# Altium footprint library Connector.PcbLib: 88 footprints (part 3 of 6)
Each footprint in its own frame and in the unit in brackets; x right, y up, seen from the top. Pads: shape width x height; smd on the part's side, far side on the other; paste and mask are expansions set on the pad; w line width, h text height; cw(c..) or ccw(c..) is an arc to the next point about the centre after c.
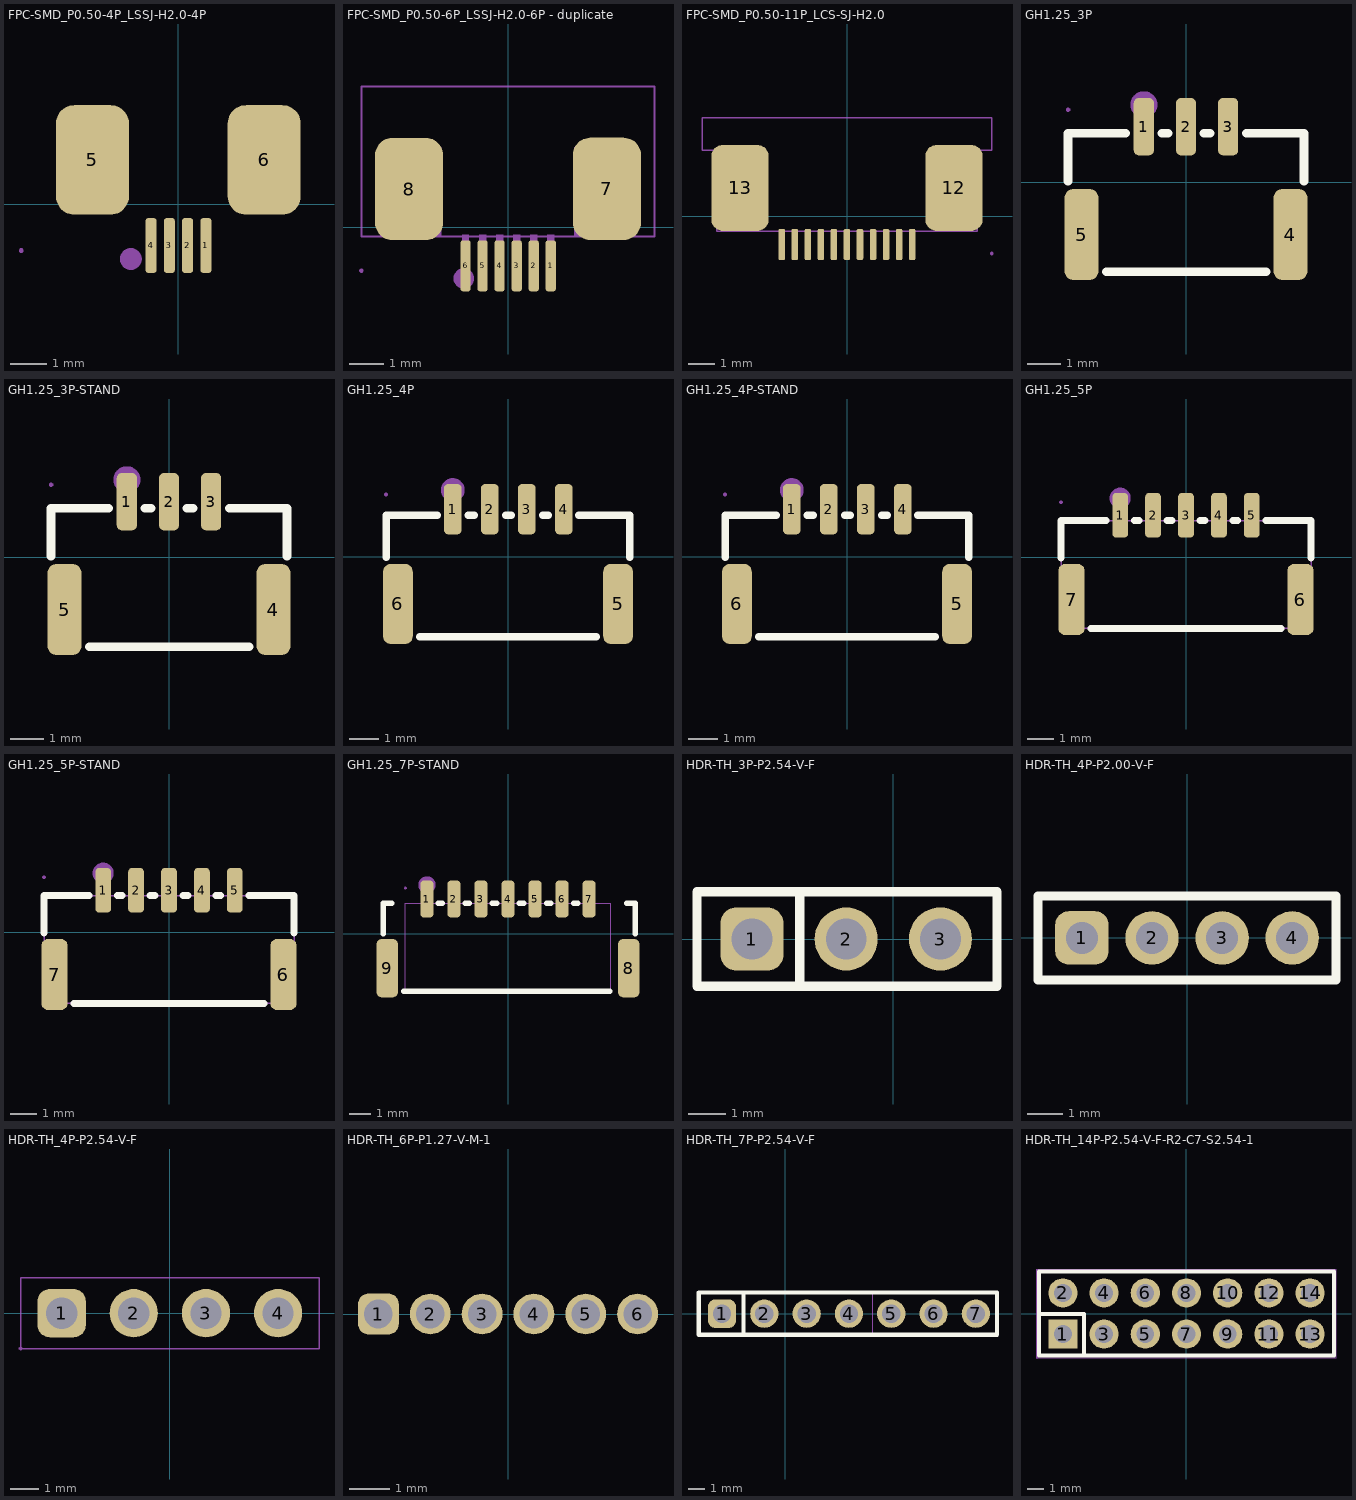
[diagram p2: the footprints below, top view; thin cyan lines are the x and y axes]

## FPC-SMD_P0.50-4P_LSSJ-H2.0-4P [mm]
pads (6):
  rrect50% 0.3x1.5 smd: 1(0.755,-1.13) 2(0.255,-1.13) 3(-0.245,-1.13) 4(-0.745,-1.13)
  rrect50% 2x3 smd: 5(-2.35,1.211) 6(2.35,1.211)
Mechanical 6:
  circle w0.3: c-1.3,-1.5 r0.15
Mechanical 15:
  region: -4.24,-1.271 -4.24,-1.246 -4.275,-1.211 -4.325,-1.211 -4.36,-1.246 -4.36,-1.271 -4.36,-1.296 -4.325,-1.331 -4.275,-1.331 -4.24,-1.296 -4.24,-1.271
  region: 0.848,-1.557 0.648,-1.557 0.648,-0.757 0.848,-0.757
  region: 0.348,-1.557 0.148,-1.557 0.148,-0.757 0.348,-0.757
  region: -0.152,-1.557 -0.352,-1.557 -0.352,-0.757 -0.152,-0.757
  region: -0.652,-1.557 -0.852,-1.557 -0.852,-0.757 -0.652,-0.757
3D body "fpc4real.step": height 2, standoff 0, extent -3.8,-1.39 3.8,3.81

## FPC-SMD_P0.50-6P_LSSJ-H2.0-6P - duplicate [mm]
pads (8):
  rrect50% 0.3x1.5 smd: 1(1.255,-1.13) 2(0.755,-1.13) 3(0.255,-1.13) 4(-0.245,-1.13) 5(-0.745,-1.13) 6(-1.245,-1.13)
  rrect50% 2x3 smd: 7(2.901,1.13) 8(-2.901,1.124)
Mechanical 6:
  circle w0.3: c-1.3,-1.5 r0.15
Mechanical 15:
  region: -4.24,-1.271 -4.24,-1.246 -4.275,-1.211 -4.325,-1.211 -4.36,-1.246 -4.36,-1.271 -4.36,-1.296 -4.325,-1.331 -4.275,-1.331 -4.24,-1.296 -4.24,-1.271
  region: 1.155,-0.221 1.355,-0.221 1.355,-1.271 1.155,-1.271
  region: 0.655,-0.221 0.855,-0.221 0.855,-1.271 0.655,-1.271
  region: 0.155,-0.221 0.355,-0.221 0.355,-1.271 0.155,-1.271
  region: -0.345,-0.221 -0.145,-0.221 -0.145,-1.271 -0.345,-1.271
  region: -0.845,-0.221 -0.645,-0.221 -0.645,-1.271 -0.845,-1.271
  region: -1.345,-0.221 -1.145,-0.221 -1.145,-1.271 -1.345,-1.271
  region: -3.751,2.35 -1.951,2.35 -1.951,-0.271 -3.751,-0.271
  region: 1.95,2.356 3.75,2.356 3.75,-0.265 1.95,-0.265
  lines w0.051: -4.3,-0.271 -4.3,4.129 4.3,4.129 4.3,-0.271 -4.3,-0.271
3D body "fpc v1.step": height 1.97, standoff -0.03, extent -4.3,-1.071 4.3,4.129

## FPC-SMD_P0.50-11P_LCS-SJ-H2.0 [mm]
pads (13):
  rrect50% 0.25x1.2 smd: 1(2.498,-1.084) 2(1.998,-1.084) 3(1.498,-1.084) 4(0.998,-1.084) 5(0.498,-1.084) 6(-0.002,-1.084) 7(-0.502,-1.084) 8(-1.002,-1.084) 9(-1.502,-1.084) 10(-2.002,-1.084) 11(-2.502,-1.084)
  rrect40% 2.2x3.3 smd: 12(4.1,1.084) 13(-4.1,1.084)
Mechanical 15:
  region: 2.598,-1.43 2.398,-1.43 2.398,-0.53 2.598,-0.53
  region: 2.098,-1.43 1.898,-1.43 1.898,-0.53 2.098,-0.53
  region: 1.598,-1.43 1.398,-1.43 1.398,-0.53 1.598,-0.53
  region: 1.098,-1.43 0.898,-1.43 0.898,-0.53 1.098,-0.53
  region: 0.598,-1.43 0.398,-1.43 0.398,-0.53 0.598,-0.53
  region: 0.098,-1.43 -0.102,-1.43 -0.102,-0.53 0.098,-0.53
  region: -0.402,-1.43 -0.602,-1.43 -0.602,-0.53 -0.402,-0.53
  region: -0.902,-1.43 -1.102,-1.43 -1.102,-0.53 -0.902,-0.53
  region: -1.402,-1.43 -1.602,-1.43 -1.602,-0.53 -1.402,-0.53
  region: -1.902,-1.43 -2.102,-1.43 -2.102,-0.53 -1.902,-0.53
  region: -2.402,-1.43 -2.602,-1.43 -2.602,-0.53 -2.402,-0.53
  region: 5,-0.366 3.2,-0.366 3.2,2.534 5,2.534
  region: -3.2,-0.366 -5,-0.366 -5,2.534 -3.2,2.534
  region: 5.61,-1.43 5.61,-1.405 5.575,-1.37 5.525,-1.37 5.49,-1.405 5.49,-1.43 5.49,-1.455 5.525,-1.49 5.575,-1.49 5.61,-1.455 5.61,-1.43
  lines w0.051: -5.55,2.52 -5.55,3.77 5.55,3.77 5.55,2.52 5,2.52 5,-0.58 -5,-0.58 -5,2.52 -5.55,2.52
3D body "realfpc.step": height 2, standoff 0, extent -5.55,-1.39 5.55,3.81

## GH1.25_3P [mm]
pads (5):
  rrect50% 0.6x1.7 smd mask+0.05: 1(-1.25,1.651) 2(0,1.651) 3(1.25,1.651)
  rrect50% 1x2.7 smd mask+0.05: 4(3.1,-1.549) 5(-3.1,-1.549)
Top Overlay:
  lines w0.254: -3.5,0.032 -3.5,1.451 -1.781,1.451 ; -2.369,-2.649 2.381,-2.649 ; -0.719,1.451 -0.531,1.451 ; 0.531,1.451 0.719,1.451 ; 1.969,1.451 1.781,1.451 3.5,1.451 3.5,0.032
Mechanical 6:
  circle w0.4: c-1.25,2.301 r0.2
Mechanical 15:
  region: -3.44,2.151 -3.44,2.176 -3.475,2.211 -3.525,2.211 -3.56,2.176 -3.56,2.151 -3.56,2.126 -3.525,2.091 -3.475,2.091 -3.44,2.126 -3.44,2.151
3D body "SM03B-GHS-TB.SLDPRT": height 4.25, standoff -0.05, extent -3.464,-2.882 3.536,1.968

## GH1.25_3P-STAND [mm]
pads (5):
  rrect50% 0.6x1.7 smd mask+0.05: 1(-1.25,1.651) 2(0,1.651) 3(1.25,1.651)
  rrect50% 1x2.7 smd mask+0.05: 4(3.1,-1.549) 5(-3.1,-1.549)
Top Overlay:
  lines w0.254: -3.5,0.032 -3.5,1.451 -1.781,1.451 ; -2.369,-2.649 2.381,-2.649 ; -0.719,1.451 -0.531,1.451 ; 0.531,1.451 0.719,1.451 ; 1.969,1.451 1.781,1.451 3.5,1.451 3.5,0.032
Mechanical 6:
  circle w0.4: c-1.25,2.301 r0.2
Mechanical 15:
  region: -3.44,2.151 -3.44,2.176 -3.475,2.211 -3.525,2.211 -3.56,2.176 -3.56,2.151 -3.56,2.126 -3.525,2.091 -3.475,2.091 -3.44,2.126 -3.44,2.151
3D body "B03MB-GHS-TBT.STEP": height 4.06, standoff -0.04, extent -3.49,-2.98 3.51,1.92

## GH1.25_4P [mm]
pads (6):
  rrect50% 0.6x1.7 smd mask+0.05: 1(-1.865,1.6) 2(-0.615,1.6) 3(0.635,1.6) 4(1.885,1.6)
  rrect50% 1x2.7 smd mask+0.05: 5(3.715,-1.6) 6(-3.715,-1.6)
Top Overlay:
  lines w0.254: -4.115,-0.019 -4.115,1.4 -2.396,1.4 ; -2.984,-2.7 2.985,-2.7 ; -1.334,1.4 -1.146,1.4 ; -0.084,1.4 0.104,1.4 ; 1.166,1.4 1.354,1.4 ; 2.396,1.4 4.115,1.4 4.115,-0.019
Mechanical 6:
  circle w0.4: c-1.865,2.25 r0.2
Mechanical 15:
  region: -4.055,2.1 -4.055,2.125 -4.09,2.16 -4.14,2.16 -4.175,2.125 -4.175,2.1 -4.175,2.075 -4.14,2.04 -4.09,2.04 -4.055,2.075 -4.055,2.1
3D body "SM04B-GHS-TB.STEP": height 4.25, standoff -0.05, extent -4.125,-2.921 4.125,1.929

## GH1.25_4P-STAND [mm]
pads (6):
  rrect50% 0.6x1.7 smd mask+0.05: 1(-1.865,1.6) 2(-0.615,1.6) 3(0.635,1.6) 4(1.885,1.6)
  rrect50% 1x2.7 smd mask+0.05: 5(3.715,-1.6) 6(-3.715,-1.6)
Top Overlay:
  lines w0.254: -4.115,-0.019 -4.115,1.4 -2.396,1.4 ; -2.984,-2.7 2.985,-2.7 ; -1.334,1.4 -1.146,1.4 ; -0.084,1.4 0.104,1.4 ; 1.166,1.4 1.354,1.4 ; 2.396,1.4 4.115,1.4 4.115,-0.019
Mechanical 6:
  circle w0.4: c-1.865,2.25 r0.2
Mechanical 15:
  region: -4.055,2.1 -4.055,2.125 -4.09,2.16 -4.14,2.16 -4.175,2.125 -4.175,2.1 -4.175,2.075 -4.14,2.04 -4.09,2.04 -4.055,2.075 -4.055,2.1
3D body "B04MB-GHS-TBT.STEP": height 4.06, standoff -0.04, extent -4.105,-2.853 4.145,2.047

## GH1.25_5P [mm]
pads (7):
  rrect50% 0.6x1.7 smd mask+0.05: 1(-2.5,1.6) 2(-1.25,1.6) 3(0,1.6) 4(1.25,1.6) 5(2.5,1.6)
  rrect50% 1x2.7 smd mask+0.05: 6(4.35,-1.6) 7(-4.35,-1.6)
Top Overlay:
  lines w0.254: -4.75,-0.019 -4.75,1.4 -3.031,1.4 ; -3.619,-2.7 3.619,-2.7 ; -1.969,1.4 -1.781,1.4 ; -0.719,1.4 -0.531,1.4 ; 0.531,1.4 0.719,1.4 ; 1.781,1.4 1.969,1.4 ; 3.031,1.4 4.75,1.4 4.75,-0.019
Mechanical 6:
  circle w0.4: c-2.5,2.25 r0.2
Mechanical 15:
  region: -4.45,-0.9 -4.25,-0.9 -4.25,-2.6 -4.45,-2.6
  region: 4.25,-0.9 4.45,-0.9 4.45,-2.6 4.25,-2.6
  region: 2.4,2.1 2.6,2.1 2.6,1.1 2.4,1.1
  region: 1.15,2.1 1.35,2.1 1.35,1.1 1.15,1.1
  region: -0.1,2.1 0.1,2.1 0.1,1.1 -0.1,1.1
  region: -1.35,2.1 -1.15,2.1 -1.15,1.1 -1.35,1.1
  region: -2.6,2.1 -2.4,2.1 -2.4,1.1 -2.6,1.1
  region: -4.69,2.1 -4.69,2.125 -4.725,2.16 -4.775,2.16 -4.81,2.125 -4.81,2.1 -4.81,2.075 -4.775,2.04 -4.725,2.04 -4.69,2.075 -4.69,2.1
  lines w0.051: -4.75,-2.7 -4.75,1.4 4.75,1.4 4.75,-2.7 -4.75,-2.7
3D body "GH1.25 5P v1.step": height 4.38, standoff 0.03, extent -4.75,-2.921 4.75,1.879

## GH1.25_5P-STAND [mm]
pads (7):
  rrect50% 0.6x1.7 smd mask+0.05: 1(-2.5,1.6) 2(-1.25,1.6) 3(0,1.6) 4(1.25,1.6) 5(2.5,1.6)
  rrect50% 1x2.7 smd mask+0.05: 6(4.35,-1.6) 7(-4.35,-1.6)
Top Overlay:
  lines w0.254: -4.75,-0.019 -4.75,1.4 -3.031,1.4 ; -3.619,-2.7 3.619,-2.7 ; -1.969,1.4 -1.781,1.4 ; -0.719,1.4 -0.531,1.4 ; 0.531,1.4 0.719,1.4 ; 1.781,1.4 1.969,1.4 ; 3.031,1.4 4.75,1.4 4.75,-0.019
Mechanical 6:
  circle w0.4: c-2.5,2.25 r0.2
Mechanical 15:
  region: -4.69,2.1 -4.69,2.125 -4.725,2.16 -4.775,2.16 -4.81,2.125 -4.81,2.1 -4.81,2.075 -4.775,2.04 -4.725,2.04 -4.69,2.075 -4.69,2.1
  region: -2.6,2.1 -2.4,2.1 -2.4,1.1 -2.6,1.1
  region: -1.35,2.1 -1.15,2.1 -1.15,1.1 -1.35,1.1
  region: -0.1,2.1 0.1,2.1 0.1,1.1 -0.1,1.1
  region: 1.15,2.1 1.35,2.1 1.35,1.1 1.15,1.1
  region: 2.4,2.1 2.6,2.1 2.6,1.1 2.4,1.1
  region: 4.25,-0.9 4.45,-0.9 4.45,-2.6 4.25,-2.6
  region: -4.45,-0.9 -4.25,-0.9 -4.25,-2.6 -4.45,-2.6
  lines w0.051: -4.75,-2.7 4.75,-2.7 4.75,1.4 -4.75,1.4 -4.75,-2.7
3D body "B05MB-GHS-TBT.STEP": height 4.06, standoff -0.04, extent -4.75,-2.8 4.75,2.1

## GH1.25_7P-STAND [mm]
pads (9):
  rrect50% 0.6x1.7 smd mask+0.05: 1(-3.75,1.6) 2(-2.5,1.6) 3(-1.25,1.6) 4(0,1.6) 5(1.25,1.6) 6(2.5,1.6) 7(3.75,1.6)
  rrect50% 1x2.7 smd mask+0.05: 8(5.588,-1.6) 9(-5.588,-1.6)
Top Overlay:
  lines w0.254: -5.766,-0.019 -5.766,1.4 -5.366,1.4 ; -4.826,-2.667 4.699,-2.667 ; -3.219,1.4 -3.031,1.4 ; -1.969,1.4 -1.781,1.4 ; -0.719,1.4 -0.531,1.4 ; 0.531,1.4 0.719,1.4 ; 1.781,1.4 1.969,1.4 ; 3.031,1.4 3.219,1.4 ; 5.493,1.4 5.893,1.4 5.893,-0.019
Mechanical 6:
  circle w0.4: c-3.75,2.25 r0.2
Mechanical 15:
  region: -5.661,-0.928 -5.461,-0.928 -5.461,-2.628 -5.661,-2.628
  region: 5.461,-0.928 5.661,-0.928 5.661,-2.628 5.461,-2.628
  region: 2.4,2.1 2.6,2.1 2.6,1.1 2.4,1.1
  region: 1.15,2.1 1.35,2.1 1.35,1.1 1.15,1.1
  region: -0.1,2.1 0.1,2.1 0.1,1.1 -0.1,1.1
  region: -1.35,2.1 -1.15,2.1 -1.15,1.1 -1.35,1.1
  region: -2.6,2.1 -2.4,2.1 -2.4,1.1 -2.6,1.1
  region: -4.69,2.1 -4.69,2.125 -4.725,2.16 -4.775,2.16 -4.81,2.125 -4.81,2.1 -4.81,2.075 -4.775,2.04 -4.725,2.04 -4.69,2.075 -4.69,2.1
  region: -3.85,2.1 -3.65,2.1 -3.65,1.1 -3.85,1.1
  region: 3.65,2.1 3.85,2.1 3.85,1.1 3.65,1.1
  lines w0.051: -4.75,-2.7 -4.75,1.4 4.75,1.4 4.75,-2.7 -4.75,-2.7
3D body "B07MB-GHS-TBT.STEP": height 4.13, standoff 0.03, extent -5.95,-2.98 6.05,1.92

## HDR-TH_3P-P2.54-V-F [mm] "间距2.54"
pads (3):
  rrect50% 1.699x1.699 hole 1.1 mask+0.051: 1(-3.81,0)
  round 1.699 hole 1.1 mask+0.051: 2(-1.27,0) 3(1.27,0)
Top Overlay:
  lines w0.254: -2.517,-1.27 -2.517,1.27 ; -5.291,-1.27 -5.291,1.27 2.794,1.27 2.794,-1.27 -5.291,-1.27
Mechanical 15:
  region: -4.13,0.15 -3.49,0.15 -3.49,-0.15 -4.13,-0.15
  region: -1.59,0.15 -0.95,0.15 -0.95,-0.15 -1.59,-0.15
  region: 0.95,0.15 1.59,0.15 1.59,-0.15 0.95,-0.15

## HDR-TH_4P-P2.00-V-F [mil] "间距2.0"
pads (4):
  rrect50% 60x60 hole 36 mask+2: 1(-118.11,0)
  round 60 hole 36 mask+2: 2(-39.37,0) 3(39.37,0) 4(118.11,0)
Top Overlay:
  lines w10: -167.32,-47.24 167.32,-47.24 167.32,47.24 -167.32,47.24 -167.32,-47.24
Mechanical 15:
  region: -164.96,-47.24 -164.96,-46.27 -166.34,-44.88 -168.3,-44.88 -169.69,-46.27 -169.69,-47.24 -169.69,-48.22 -168.3,-49.61 -166.34,-49.61 -164.96,-48.22 -164.96,-47.24
  region: 108.27,3.94 127.95,3.94 127.95,-3.94 108.27,-3.94
  region: 29.53,3.94 49.21,3.94 49.21,-3.94 29.53,-3.94
  region: -49.21,3.94 -29.53,3.94 -29.53,-3.94 -49.21,-3.94
  region: -127.95,3.94 -108.27,3.94 -108.27,-3.94 -127.95,-3.94
  lines w2: -167.32,-47.24 -167.32,47.24 167.32,47.24 167.32,-47.24 -167.32,-47.24

## HDR-TH_4P-P2.54-V-F [mm] "间距2.54"
pads (4):
  rrect50% 1.699x1.699 hole 1.1 mask+0.051: 1(-3.81,0)
  round 1.699 hole 1.1 mask+0.051: 2(-1.27,0) 3(1.27,0) 4(3.81,0)
Mechanical 15:
  region: -4.13,0.15 -3.49,0.15 -3.49,-0.15 -4.13,-0.15
  region: -1.59,0.15 -0.95,0.15 -0.95,-0.15 -1.59,-0.15
  region: 0.95,0.15 1.59,0.15 1.59,-0.15 0.95,-0.15
  region: 3.49,0.15 4.13,0.15 4.13,-0.15 3.49,-0.15
  region: -5.189,-1.25 -5.189,-1.224 -5.225,-1.189 -5.275,-1.189 -5.311,-1.224 -5.311,-1.25 -5.311,-1.275 -5.275,-1.311 -5.225,-1.311 -5.189,-1.275 -5.189,-1.25
  lines w0.051: -5.25,-1.25 -5.25,1.25 5.25,1.25 5.25,-1.25 -5.25,-1.25

## HDR-TH_6P-P1.27-V-M-1 [mm]
pads (6):
  rrect50% 1x1 hole 0.7: 1(-3.175,0)
  round 1 hole 0.7: 2(-1.905,0) 3(-0.635,0) 4(0.635,0) 5(1.905,0) 6(3.175,0)

## HDR-TH_7P-P2.54-V-F [mm] "间距2.54"
pads (7):
  rrect50% 1.699x1.699 hole 1.1 mask+0.051: 1(-3.81,0)
  round 1.699 hole 1.1 mask+0.051: 2(-1.27,0) 3(1.27,0) 4(3.81,0) 5(6.35,0) 6(8.89,0) 7(11.43,0)
Top Overlay:
  lines w0.254: -2.517,-1.27 -2.517,1.27 ; -5.207,-1.27 12.7,-1.27 12.7,1.27 -5.207,1.27 -5.207,-1.27
Mechanical 15:
  region: -4.13,0.15 -3.49,0.15 -3.49,-0.15 -4.13,-0.15
  region: -1.59,0.15 -0.95,0.15 -0.95,-0.15 -1.59,-0.15
  region: 0.95,0.15 1.59,0.15 1.59,-0.15 0.95,-0.15
  region: 3.49,0.15 4.13,0.15 4.13,-0.15 3.49,-0.15
  region: -5.189,-1.25 -5.189,-1.224 -5.225,-1.189 -5.275,-1.189 -5.311,-1.224 -5.311,-1.25 -5.311,-1.275 -5.275,-1.311 -5.225,-1.311 -5.189,-1.275 -5.189,-1.25
  lines w0.051: -5.25,-1.25 -5.25,1.25 5.25,1.25 5.25,-1.25 -5.25,-1.25

## HDR-TH_14P-P2.54-V-F-R2-C7-S2.54-1 [mm]
pads (14):
  rect 1.8x1.8 hole 1.1 paste-2539.97 mask+0.051: 1(-7.62,-1.27)
  round 1.8 hole 1.1 paste-2539.97 mask+0.051: 2(-7.62,1.27) 3(-5.08,-1.27) 4(-5.08,1.27) 5(-2.54,-1.27) 6(-2.54,1.27) 7(0,-1.27) 8(0,1.27) 9(2.54,-1.27) 10(2.54,1.27) 11(5.08,-1.27) 12(5.08,1.27) 13(7.62,-1.27) 14(7.62,1.27)
Top Overlay:
  lines w0.254: -9.09,-0.026 -6.327,-0.026 -6.327,-2.6 ; -9.09,2.6 -9.09,-2.6 9.09,-2.6 9.09,2.6 -9.09,2.6
Mechanical 15:
  drawing of 19 lines, arcs and shapes, not listed